# EAGLE library part ZX62R-B-5P(30) (library ZX62R-B-5P_30_)
ZX Series 5 Pin Single Port USB 2.0 Micro B Top Mount Receptacle Male
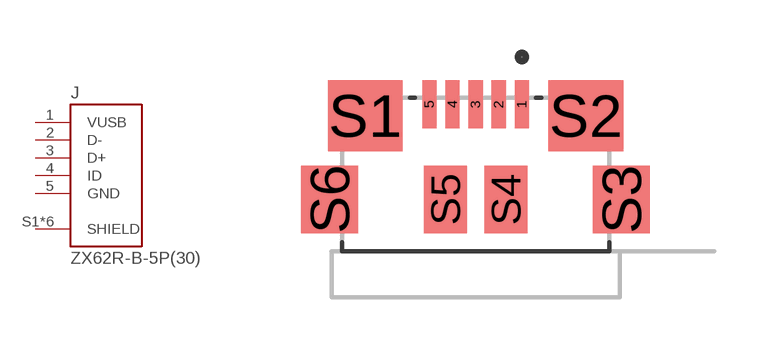
[diagram p0: symbol with the pads of HRS_ZX62R-B-5P(30); footprint HRS_ZX62R-B-5P(30)]

Designator prefix J

## ZX62R-B-5P(30) (Availability: Unavailable; Description: USB - micro B USB 2.0 Receptacle Connector 5 Position Surface Mount, Right Angle; MF: Hirose; MP: ZX62R-B-5P_30_; Package: None; Price: None)  [HRS_ZX62R-B-5P(30)]
1  VUSB  pas
2  D-  pas
3  D+  pas
4  ID  pas
5  GND  pas
S1  SHIELD  pas
S2  SHIELD  pas
S3  SHIELD  pas
S4  SHIELD  pas
S5  SHIELD  pas
S6  SHIELD  pas

## Footprint HRS_ZX62R-B-5P(30) (pad centres in mm)
smd 0.4 x 1.35: 1 1.3,2.675; 2 0.65,2.675; 3 0,2.675; 4 -0.65,2.675; 5 -1.3,2.675
smd 2.1 x 2: S1 -3.1,2.35; S2 3.1,2.35
smd 1.6 x 1.9: S3 4.1,0; S6 -4.1,0
smd 1.2 x 1.9: S4 0.85,0; S5 -0.85,0